# Altium footprint library PEI_PCB_1.1.PcbLib: 310 footprints (part 2 of 20)
Each footprint in its own frame and in the unit in brackets; x right, y up, seen from the top. Pads: shape width x height; smd on the part's side, far side on the other; paste and mask are expansions set on the pad; w line width, h text height; cw(c..) or ccw(c..) is an arc to the next point about the centre after c.
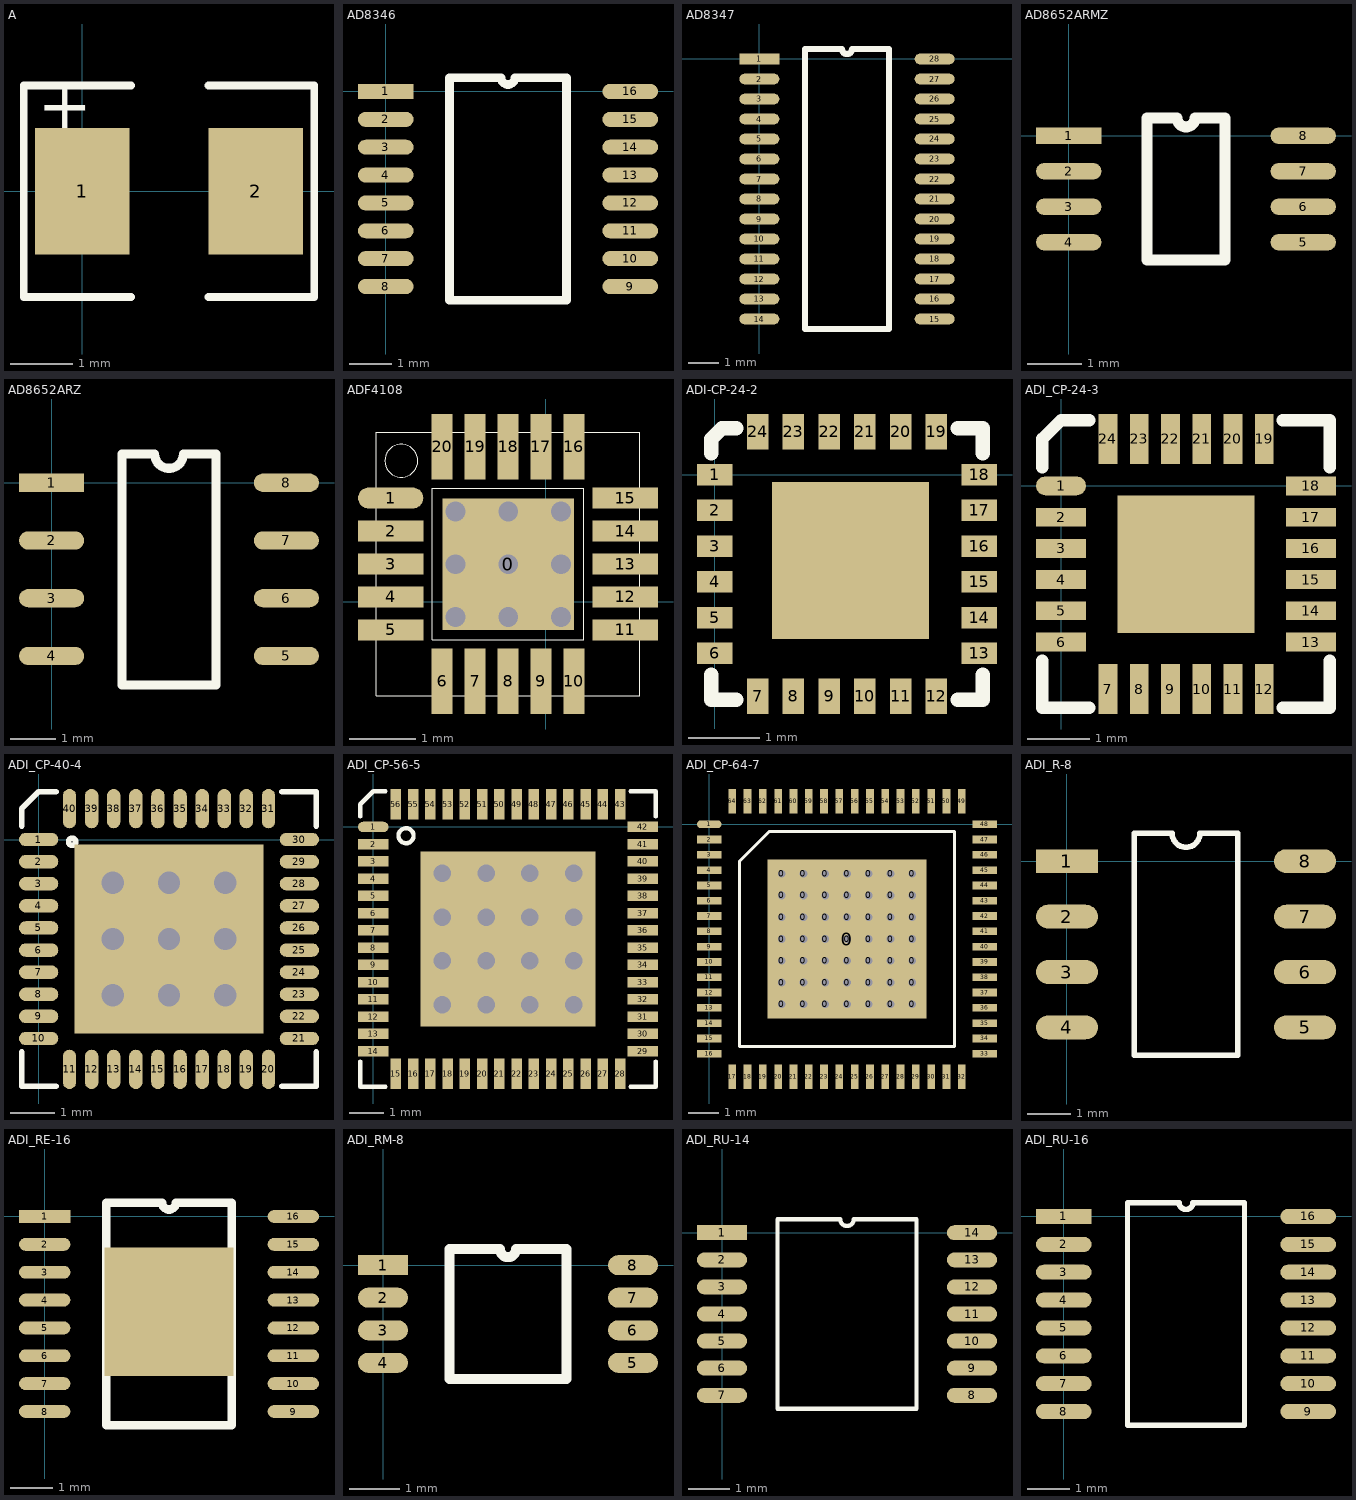
[diagram p1: the footprints below, top view; thin cyan lines are the x and y axes]

## A [mil]
pads (2):
  rect 60x80 smd: 1(0,0) 2(110,0)
TopOverlay:
  lines w5: 31,-67 -37,-67 -37,67 31,67 ; 80,-67 147,-67 147,67 80,67
  text "+" at -28,40 h30

## AD8346 [mm]
pads (16):
  rect 1.3x0.35 smd: 1(0,0)
  oval 1.3x0.35 smd: 2(0,-0.65) 3(0,-1.3) 4(0,-1.95) 5(0,-2.6) 6(0,-3.25) 7(0,-3.9) 8(0,-4.55) 9(5.7,-4.55) 10(5.7,-3.9) 11(5.7,-3.25) 12(5.7,-2.6) 13(5.7,-1.95) 14(5.7,-1.3) 15(5.7,-0.65) 16(5.7,0)
TopOverlay:
  lines w0.2: 1.485,-4.875 4.215,-4.875 4.215,0.325 3.012,0.325 cw(c2.85,0.325) 2.687,0.325 1.485,0.325 1.485,-4.875

## AD8347 [mm]
pads (28):
  rect 1.3x0.35 smd: 1(0,0)
  oval 1.3x0.35 smd: 2(0,-0.65) 3(0,-1.3) 4(0,-1.95) 5(0,-2.6) 6(0,-3.25) 7(0,-3.9) 8(0,-4.55) 9(0,-5.2) 10(0,-5.85) 11(0,-6.5) 12(0,-7.15) 13(0,-7.8) 14(0,-8.45) 15(5.7,-8.45) 16(5.7,-7.8) 17(5.7,-7.15) 18(5.7,-6.5) 19(5.7,-5.85) 20(5.7,-5.2) 21(5.7,-4.55) 22(5.7,-3.9) 23(5.7,-3.25) 24(5.7,-2.6) 25(5.7,-1.95) 26(5.7,-1.3) 27(5.7,-0.65) 28(5.7,0)
TopOverlay:
  lines w0.2: 1.485,-8.775 1.485,0.325 2.687,0.325 ccw(c2.85,0.325) 3.013,0.325 4.215,0.325 4.215,-8.775 1.485,-8.775

## AD8652ARMZ [mm]
pads (8):
  rect 1.2x0.3 smd: 1(0,0)
  oval 1.2x0.3 smd: 2(0,-0.65) 3(0,-1.3) 4(0,-1.95) 5(4.3,-1.95) 6(4.3,-1.3) 7(4.3,-0.65) 8(4.3,0)
TopOverlay:
  lines w0.2: 1.435,-2.275 1.435,0.325 1.987,0.325 ccw(c2.15,0.325) 2.313,0.325 2.865,0.325 2.865,-2.275 1.435,-2.275

## AD8652ARZ [mm]
pads (8):
  rect 1.435x0.4 smd: 1(0,0)
  oval 1.435x0.4 smd: 2(0,-1.27) 3(0,-2.54) 4(0,-3.81) 5(5.165,-3.81) 6(5.165,-2.54) 7(5.165,-1.27) 8(5.165,0)
TopOverlay:
  lines w0.2: 1.552,-4.445 3.613,-4.445 3.613,0.635 2.9,0.635 cw(c2.582,0.635) 2.265,0.635 1.552,0.635 1.552,-4.445

## ADF4108 [mil]
pads (21):
  rect 78.74x78.74 smd: 0(-22.5,22.4)
  oval 39x12.6 smd: 1(-92.71,61.96)
  rect 39x12.6 smd: 2(-92.71,42.26) 3(-92.71,22.56) 4(-92.71,2.86) 5(-92.71,-16.84) 11(47.49,-16.84) 12(47.49,2.86) 13(47.49,22.56) 14(47.49,42.26) 15(47.49,61.96)
  rect 12.6x39 smd: 6(-62.01,-47.54) 7(-42.31,-47.54) 8(-22.61,-47.54) 9(-2.91,-47.54) 10(16.79,-47.54) 16(16.79,92.66) 17(-2.91,92.66) 18(-22.61,92.66) 19(-42.31,92.66) 20(-62.01,92.66)
via -54,53.9 diameter 12.99 hole 11.81
via -54,-9.1 diameter 12.99 hole 11.81
via -22.5,53.9 diameter 12.99 hole 11.81
via 9,53.9 diameter 12.99 hole 11.81
via 9,22.4 diameter 12.99 hole 11.81
via 9,-9.1 diameter 12.99 hole 11.81
via -22.5,22.4 diameter 12.99 hole 11.81
via -22.5,-9.1 diameter 12.99 hole 11.81
via -54,22.4 diameter 12.99 hole 11.81
TopOverlay:
  lines w0.4: -101.31,-56.14 -101.31,101.26 56.09,101.26 56.09,-56.14 -101.31,-56.14 ; -96.21,84.21 cw(c-86.36,84.21) -76.51,84.21 cw(c-86.36,84.21) -96.21,84.21 ; -67.91,-22.74 -67.91,67.86 22.69,67.86 22.69,-22.74 -67.91,-22.74

## ADI-CP-24-2 [mm]
pads (25):
  rect 0.5x0.3 smd: 1(0,0) 2(0,-0.5) 3(0,-1) 4(0,-1.5) 5(0,-2) 6(0,-2.5) 13(3.7,-2.5) 14(3.7,-2) 15(3.7,-1.5) 16(3.7,-1) 17(3.7,-0.5) 18(3.7,0)
  rect 0.3x0.5 smd: 7(0.6,-3.1) 8(1.1,-3.1) 9(1.6,-3.1) 10(2.1,-3.1) 11(2.6,-3.1) 12(3.1,-3.1) 19(3.1,0.6) 20(2.6,0.6) 21(2.1,0.6) 22(1.6,0.6) 23(1.1,0.6) 24(0.6,0.6)
  rect 2.2x2.2 smd: ""(1.9,-1.2)
TopOverlay:
  lines w0.2: -0.05,-2.8 -0.05,-3.15 0.3,-3.15 ; -0.05,0.3 -0.05,0.5 0.1,0.65 0.3,0.65 ; 3.4,-3.15 3.75,-3.15 3.75,-2.8 ; 3.4,0.65 3.75,0.65 3.75,0.3

## ADI_CP-24-3 [mm]
pads (25):
  oval 0.8x0.3 smd: 1(0,0)
  rect 0.8x0.3 smd: 2(0,-0.5) 3(0,-1) 4(0,-1.5) 5(0,-2) 6(0,-2.5) 13(4,-2.5) 14(4,-2) 15(4,-1.5) 16(4,-1) 17(4,-0.5) 18(4,0)
  rect 0.3x0.8 smd: 7(0.75,-3.25) 8(1.25,-3.25) 9(1.75,-3.25) 10(2.25,-3.25) 11(2.75,-3.25) 12(3.25,-3.25) 19(3.25,0.75) 20(2.75,0.75) 21(2.25,0.75) 22(1.75,0.75) 23(1.25,0.75) 24(0.75,0.75)
  rect 2.2x2.2 smd: ""(2,-1.25)
TopOverlay:
  lines w0.2: -0.3,-2.8 -0.3,-3.55 0.45,-3.55 ; -0.3,0.3 -0.3,0.75 0,1.05 0.45,1.05 ; 3.55,-3.55 4.3,-3.55 4.3,-2.8 ; 3.55,1.05 4.3,1.05 4.3,0.3

## ADI_CP-40-4 [mil]
pads (50):
  oval 35x12 smd: 1(0,0) 2(0,-19.7) 3(0,-39.4) 4(0,-59.1) 5(0,-78.8) 6(0,-98.5) 7(0,-118.2) 8(0,-137.9) 9(0,-157.6) 10(0,-177.3) 21(232.3,-177.3) 22(232.3,-157.6) 23(232.3,-137.9) 24(232.3,-118.2) 25(232.3,-98.5) 26(232.3,-78.8) 27(232.3,-59.1) 28(232.3,-39.4) 29(232.3,-19.7) 30(232.3,0)
  oval 12x35 smd: 11(27.5,-204.8) 12(47.2,-204.8) 13(66.9,-204.8) 14(86.6,-204.8) 15(106.3,-204.8) 16(126,-204.8) 17(145.7,-204.8) 18(165.4,-204.8) 19(185.1,-204.8) 20(204.8,-204.8) 31(204.8,27.5) 32(185.1,27.5) 33(165.4,27.5) 34(145.7,27.5) 35(126,27.5) 36(106.3,27.5) 37(86.6,27.5) 38(66.9,27.5) 39(47.2,27.5) 40(27.5,27.5)
  round 25 hole 20: ""(66.15,-138.65) ""(66.15,-88.65) ""(66.15,-38.65) ""(116.15,-138.65) ""(116.15,-88.65) ""(116.15,-38.65) ""(166.15,-138.65) ""(166.15,-88.65) ""(166.15,-38.65)
  rect 168x168 smd: ""(116.15,-88.65)
TopOverlay:
  circle w5: c29.84,-2 r3.16
  lines w5: -15,-189.3 -15,-219.8 15.5,-219.8 ; -15,12 -15,27.5 0,42.5 15.5,42.5 ; 216.8,-219.8 247.3,-219.8 247.3,-189.3 ; 216.8,42.5 247.3,42.5 247.3,12

## ADI_CP-56-5 [mil]
pads (73):
  oval 35x12 smd: 1(0,0)
  rect 35x12 smd: 2(0,-19.7) 3(0,-39.4) 4(0,-59.1) 5(0,-78.8) 6(0,-98.5) 7(0,-118.2) 8(0,-137.9) 9(0,-157.6) 10(0,-177.3) 11(0,-197) 12(0,-216.7) 13(0,-236.4) 14(0,-256.1) 29(307.9,-256.1) 30(307.9,-236.4) 31(307.9,-216.7) 32(307.9,-197) 33(307.9,-177.3) 34(307.9,-157.6) 35(307.9,-137.9) 36(307.9,-118.2) 37(307.9,-98.5) 38(307.9,-78.8) 39(307.9,-59.1) 40(307.9,-39.4) 41(307.9,-19.7) 42(307.9,0)
  rect 12x35 smd: 15(25.9,-282) 16(45.6,-282) 17(65.3,-282) 18(85,-282) 19(104.7,-282) 20(124.4,-282) 21(144.1,-282) 22(163.8,-282) 23(183.5,-282) 24(203.2,-282) 25(222.9,-282) 26(242.6,-282) 27(262.3,-282) 28(282,-282) 43(282,25.9) 44(262.3,25.9) 45(242.6,25.9) 46(222.9,25.9) 47(203.2,25.9) 48(183.5,25.9) 49(163.8,25.9) 50(144.1,25.9) 51(124.4,25.9) 52(104.7,25.9) 53(85,25.9) 54(65.3,25.9) 55(45.6,25.9) 56(25.9,25.9)
  round 25 hole 20: ""(78.95,-203.05) ""(78.95,-153.05) ""(78.95,-103.05) ""(78.95,-53.05) ""(128.95,-203.05) ""(128.95,-153.05) ""(128.95,-103.05) ""(128.95,-53.05) ""(178.95,-203.05) ""(178.95,-153.05) ""(178.95,-103.05) ""(178.95,-53.05) ""(228.95,-203.05) ""(228.95,-153.05) ""(228.95,-103.05) ""(228.95,-53.05)
  rect 200x200 smd: ""(153.95,-128.05)
TopOverlay:
  circle w5: c37.4,-10 r8.6
  lines w5: -15,-268.1 -15,-297 13.9,-297 ; -15,12 -15,25.9 0,40.9 13.9,40.9 ; 294,-297 322.9,-297 322.9,-268.1 ; 294,40.9 322.9,40.9 322.9,12

## ADI_CP-64-7 [mm]
pads (114):
  round 0.381 hole 0.254: 0(2.366,-5.884) 0(2.366,-5.172) 0(2.366,-4.461) 0(2.366,-3.75) 0(2.366,-3.039) 0(2.366,-2.328) 0(2.366,-1.616) 0(3.078,-5.884) 0(3.078,-5.172) 0(3.078,-4.461) 0(3.078,-3.75) 0(3.078,-3.039) 0(3.078,-2.328) 0(3.078,-1.616) 0(3.789,-5.884) 0(3.789,-5.172) 0(3.789,-4.461) 0(3.789,-3.75) 0(3.789,-3.039) 0(3.789,-2.328) 0(3.789,-1.616) 0(4.5,-5.884) 0(4.5,-5.172) 0(4.5,-4.461) 0(4.5,-3.75) 0(4.5,-3.039) 0(4.5,-2.328) 0(4.5,-1.616) 0(5.211,-5.884) 0(5.211,-5.172) 0(5.211,-4.461) 0(5.211,-3.75) 0(5.211,-3.039) 0(5.211,-2.328) 0(5.211,-1.616) 0(5.922,-5.884) 0(5.922,-5.172) 0(5.922,-4.461) 0(5.922,-3.75) 0(5.922,-3.039) 0(5.922,-2.328) 0(5.922,-1.616) 0(6.634,-5.884) 0(6.634,-5.172) 0(6.634,-4.461) 0(6.634,-3.75) 0(6.634,-3.039) 0(6.634,-2.328) 0(6.634,-1.616)
  rect 5.21x5.21 smd: 0(4.5,-3.75)
  oval 0.8x0.25 smd: 1(0,0)
  rect 0.8x0.25 smd: 2(0,-0.5) 3(0,-1) 4(0,-1.5) 5(0,-2) 6(0,-2.5) 7(0,-3) 8(0,-3.5) 9(0,-4) 10(0,-4.5) 11(0,-5) 12(0,-5.5) 13(0,-6) 14(0,-6.5) 15(0,-7) 16(0,-7.5) 33(9,-7.5) 34(9,-7) 35(9,-6.5) 36(9,-6) 37(9,-5.5) 38(9,-5) 39(9,-4.5) 40(9,-4) 41(9,-3.5) 42(9,-3) 43(9,-2.5) 44(9,-2) 45(9,-1.5) 46(9,-1) 47(9,-0.5) 48(9,0)
  rect 0.25x0.8 smd: 17(0.75,-8.25) 18(1.25,-8.25) 19(1.75,-8.25) 20(2.25,-8.25) 21(2.75,-8.25) 22(3.25,-8.25) 23(3.75,-8.25) 24(4.25,-8.25) 25(4.75,-8.25) 26(5.25,-8.25) 27(5.75,-8.25) 28(6.25,-8.25) 29(6.75,-8.25) 30(7.25,-8.25) 31(7.75,-8.25) 32(8.25,-8.25) 49(8.25,0.75) 50(7.75,0.75) 51(7.25,0.75) 52(6.75,0.75) 53(6.25,0.75) 54(5.75,0.75) 55(5.25,0.75) 56(4.75,0.75) 57(4.25,0.75) 58(3.75,0.75) 59(3.25,0.75) 60(2.75,0.75) 61(2.25,0.75) 62(1.75,0.75) 63(1.25,0.75) 64(0.75,0.75)
TopOverlay:
  lines w0.1: 0.985,-7.265 0.985,-1.22 1.97,-0.235 8.015,-0.235 8.015,-7.265 0.985,-7.265

## ADI_R-8 [mm]
pads (8):
  rect 1.43x0.55 smd: 1(0,0)
  oval 1.43x0.55 smd: 2(0,-1.28) 3(0,-2.56) 4(0,-3.84) 5(5.5,-3.84) 6(5.5,-2.56) 7(5.5,-1.28) 8(5.5,0)
TopOverlay:
  lines w0.127: 1.55,-4.48 3.95,-4.48 3.95,0.64 3.07,0.64 cw(c2.75,0.64) 2.43,0.64 1.55,0.64 1.55,-4.48

## ADI_RE-16 [mm]
pads (17):
  rect 1.2x0.3 smd: 1(0,0)
  oval 1.2x0.3 smd: 2(0,-0.65) 3(0,-1.3) 4(0,-1.95) 5(0,-2.6) 6(0,-3.25) 7(0,-3.9) 8(0,-4.55) 9(5.8,-4.55) 10(5.8,-3.9) 11(5.8,-3.25) 12(5.8,-2.6) 13(5.8,-1.95) 14(5.8,-1.3) 15(5.8,-0.65) 16(5.8,0)
  rect 3x3 smd: ""(2.9,-2.225)
TopOverlay:
  lines w0.2: 1.435,-4.875 4.365,-4.875 4.365,0.325 3.063,0.325 cw(c2.9,0.325) 2.737,0.325 1.435,0.325 1.435,-4.875

## ADI_RM-8 [mm]
pads (8):
  rect 1x0.4 smd: 1(0,0)
  oval 1x0.4 smd: 2(0,-0.65) 3(0,-1.3) 4(0,-1.95) 5(5,-1.95) 6(5,-1.3) 7(5,-0.65) 8(5,0)
TopOverlay:
  lines w0.2: 1.335,-2.275 1.335,0.325 2.338,0.325 ccw(c2.5,0.325) 2.662,0.325 3.665,0.325 3.665,-2.275 1.335,-2.275

## ADI_RU-14 [mm]
pads (14):
  rect 1.2x0.36 smd: 1(0,0)
  oval 1.2x0.36 smd: 2(0,-0.65) 3(0,-1.3) 4(0,-1.95) 5(0,-2.6) 6(0,-3.25) 7(0,-3.9) 8(6,-3.9) 9(6,-3.25) 10(6,-2.6) 11(6,-1.95) 12(6,-1.3) 13(6,-0.65) 14(6,0)
TopOverlay:
  lines w0.1: 1.335,-4.225 4.665,-4.225 4.665,0.325 3.163,0.325 cw(c3,0.325) 2.837,0.325 1.335,0.325 1.335,-4.225

## ADI_RU-16 [mm]
pads (16):
  rect 1.3x0.35 smd: 1(0,0)
  oval 1.3x0.35 smd: 2(0,-0.65) 3(0,-1.3) 4(0,-1.95) 5(0,-2.6) 6(0,-3.25) 7(0,-3.9) 8(0,-4.55) 9(5.7,-4.55) 10(5.7,-3.9) 11(5.7,-3.25) 12(5.7,-2.6) 13(5.7,-1.95) 14(5.7,-1.3) 15(5.7,-0.65) 16(5.7,0)
TopOverlay:
  lines w0.127: 1.485,-4.875 1.485,0.325 2.687,0.325 ccw(c2.85,0.325) 3.013,0.325 4.215,0.325 4.215,-4.875 1.485,-4.875